# Altium integrated library ICL_design_adds_v1.IntLib: 8 symbols
Pins are listed as number, name and electrical type; pins without a type are passive.

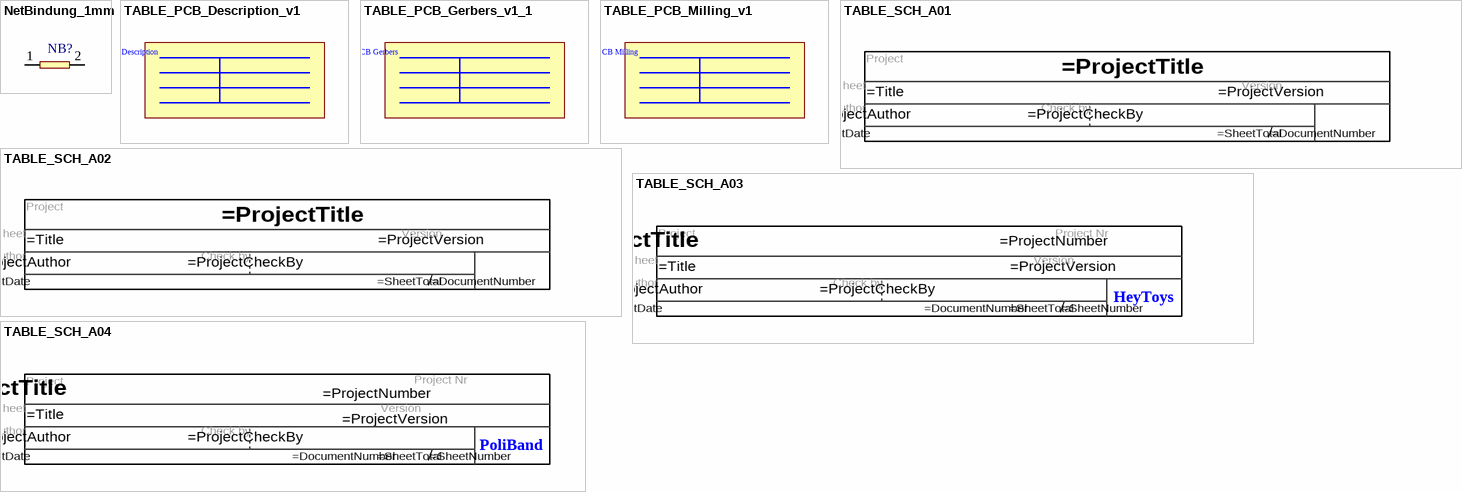
[diagram p0: symbols NetBindung_1mm to TABLE_SCH_A04]

## NetBindung_1mm
designator NB?, comment NB_1mm  (value not drawn)  (net tie, no BOM)
footprint NetzBindung_1mm
footprint NetzBindung_3.5mm
pins: 1, 2

## TABLE_PCB_Description_v1
designator RB?, comment Table PCB Description  (value not drawn)  (no BOM)
footprint PCB_TABLE_DESCRIPTION (General board description)
text: PCB Description

## TABLE_PCB_Gerbers_v1_1
designator RB?, comment Table PCB Gerbers Description  (value not drawn)  (no BOM)
footprint PCB_TABLE_GERBERS_2L (Gerber file description 2 layer)
footprint PCB_TABLE_GERBERS_4L (Gerber file description 4 layer)
footprint PCB_TABLE_GERBERS_6L (Gerber file description 6 layer)
text: PCB Gerbers

## TABLE_PCB_Milling_v1
designator RB?, comment Table PCB Milling Description  (value not drawn)  (no BOM)
footprint PCB_TABLE_MILLING_v1 (Milling Description)
text: PCB Milling

## TABLE_SCH_A01
designator TAB?, comment TAB_A01  (value not drawn)  (graphical)
PowerSo
text: Project; Sheet; Version; Author; Check by; /

## TABLE_SCH_A02
designator TAB?, comment TAB_A02  (value not drawn)  (graphical)
impel / legion
text: Project; Sheet; Version; Author; Check by; /

## TABLE_SCH_A03
designator TAB?, comment TAB_A02  (value not drawn)  (graphical)
heyToys
text: Project; Project Nr; Sheet; Version; Author; Check by; HeyToys; /

## TABLE_SCH_A04
designator TAB?, comment TAB_A02  (value not drawn)  (graphical)
heyToys
text: Project; Project Nr; Sheet; Version; Author; Check by; PoliBand; /